# EAGLE library part X34 (library connectors)
Connector 34 pins
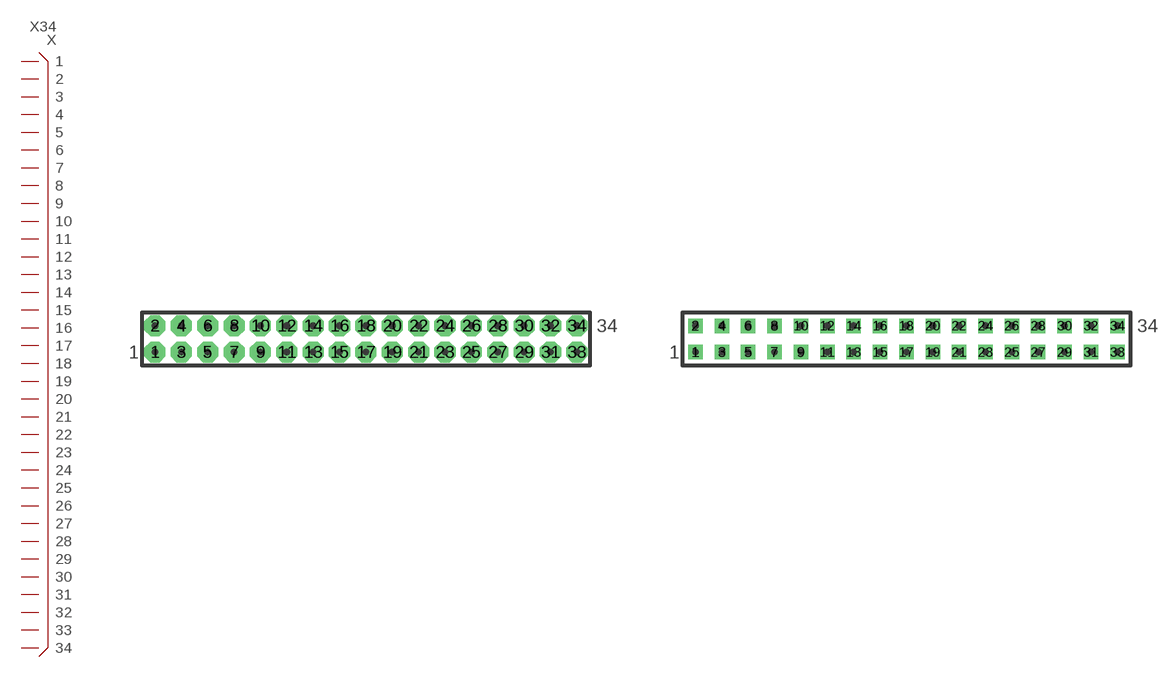
[diagram p30: symbol with the pads of X34N-DIL; footprints X34N-DIL, X34R-DIL]

Designator prefix X

## X34D  [X34N-DIL]
1  1
2  2
3  3
4  4
5  5
6  6
7  7
8  8
9  9
10  10
11  11
12  12
13  13
14  14
15  15
16  16
17  17
18  18
19  19
20  20
21  21
22  22
23  23
24  24
25  25
26  26
27  27
28  28
29  29
30  30
31  31
32  32
33  33
34  34

## X34DR  [X34R-DIL]
Pads as for X34N-DIL

## X34I  [X34N-IDC]
Pads as for X34N-DIL

## X34  [X34N-IDC]
Pads as for X34N-DIL

## X34IR  [X34R-IDC]
Pads as for X34N-DIL

## X34L  [X34L-SIL]
Pads as for X34N-DIL

## X34N  [X34N-SIL]
Pads as for X34N-DIL

## X34R  [X34R-SIL]
Pads as for X34N-DIL

## Footprint X34N-DIL (pad centres in mm)
Connector 34 pins, DIL
drill 0.889 pad 2.032 octagon: 1 -20.32,-1.27; 2 -20.32,1.27; 3 -17.78,-1.27; 4 -17.78,1.27; 5 -15.24,-1.27; 6 -15.24,1.27; 7 -12.7,-1.27; 8 -12.7,1.27; 9 -10.16,-1.27; 10 -10.16,1.27; 11 -7.62,-1.27; 12 -7.62,1.27; 13 -5.08,-1.27; 14 -5.08,1.27; 15 -2.54,-1.27; 16 -2.54,1.27; 17 0,-1.27; 18 0,1.27; 19 2.54,-1.27; 20 2.54,1.27; 21 5.08,-1.27; 22 5.08,1.27; 23 7.62,-1.27; 24 7.62,1.27; 25 10.16,-1.27; 26 10.16,1.27; 27 12.7,-1.27; 28 12.7,1.27; 29 15.24,-1.27; 30 15.24,1.27; 31 17.78,-1.27; 32 17.78,1.27; 33 20.32,-1.27; 34 20.32,1.27

## Footprint X34R-DIL (pad centres in mm)
Connector 34 pins, DIL, reduced pads
drill 0.889 pad 1.397 square: 1 -20.32,-1.27; 2 -20.32,1.27; 3 -17.78,-1.27; 4 -17.78,1.27; 5 -15.24,-1.27; 6 -15.24,1.27; 7 -12.7,-1.27; 8 -12.7,1.27; 9 -10.16,-1.27; 10 -10.16,1.27; 11 -7.62,-1.27; 12 -7.62,1.27; 13 -5.08,-1.27; 14 -5.08,1.27; 15 -2.54,-1.27; 16 -2.54,1.27; 17 0,-1.27; 18 0,1.27; 19 2.54,-1.27; 20 2.54,1.27; 21 5.08,-1.27; 22 5.08,1.27; 23 7.62,-1.27; 24 7.62,1.27; 25 10.16,-1.27; 26 10.16,1.27; 27 12.7,-1.27; 28 12.7,1.27; 29 15.24,-1.27; 30 15.24,1.27; 31 17.78,-1.27; 32 17.78,1.27; 33 20.32,-1.27; 34 20.32,1.27

## Footprint X34N-IDC (pad centres in mm)
Connector 34 pins, IDC
drill 0.889 pad 2.032 octagon: 1 -20.32,-1.27; 2 -20.32,1.27; 3 -17.78,-1.27; 4 -17.78,1.27; 5 -15.24,-1.27; 6 -15.24,1.27; 7 -12.7,-1.27; 8 -12.7,1.27; 9 -10.16,-1.27; 10 -10.16,1.27; 11 -7.62,-1.27; 12 -7.62,1.27; 13 -5.08,-1.27; 14 -5.08,1.27; 15 -2.54,-1.27; 16 -2.54,1.27; 17 0,-1.27; 18 0,1.27; 19 2.54,-1.27; 20 2.54,1.27; 21 5.08,-1.27; 22 5.08,1.27; 23 7.62,-1.27; 24 7.62,1.27; 25 10.16,-1.27; 26 10.16,1.27; 27 12.7,-1.27; 28 12.7,1.27; 29 15.24,-1.27; 30 15.24,1.27; 31 17.78,-1.27; 32 17.78,1.27; 33 20.32,-1.27; 34 20.32,1.27

## Footprint X34R-IDC (pad centres in mm)
Connector 34 pins, IDC, reduced pads
drill 0.889 pad 1.397 square: 1 -20.32,-1.27; 2 -20.32,1.27; 3 -17.78,-1.27; 4 -17.78,1.27; 5 -15.24,-1.27; 6 -15.24,1.27; 7 -12.7,-1.27; 8 -12.7,1.27; 9 -10.16,-1.27; 10 -10.16,1.27; 11 -7.62,-1.27; 12 -7.62,1.27; 13 -5.08,-1.27; 14 -5.08,1.27; 15 -2.54,-1.27; 16 -2.54,1.27; 17 0,-1.27; 18 0,1.27; 19 2.54,-1.27; 20 2.54,1.27; 21 5.08,-1.27; 22 5.08,1.27; 23 7.62,-1.27; 24 7.62,1.27; 25 10.16,-1.27; 26 10.16,1.27; 27 12.7,-1.27; 28 12.7,1.27; 29 15.24,-1.27; 30 15.24,1.27; 31 17.78,-1.27; 32 17.78,1.27; 33 20.32,-1.27; 34 20.32,1.27

## Footprint X34L-SIL (pad centres in mm)
Connector 34 pins, SIL, long pads
drill 0.889 pad 1.397 long: 1 -41.91,0; 2 -39.37,0; 3 -36.83,0; 4 -34.29,0; 5 -31.75,0; 6 -29.21,0; 7 -26.67,0; 8 -24.13,0; 9 -21.59,0; 10 -19.05,0; 11 -16.51,0; 12 -13.97,0; 13 -11.43,0; 14 -8.89,0; 15 -6.35,0; 16 -3.81,0; 17 -1.27,0; 18 1.27,0; 19 3.81,0; 20 6.35,0; 21 8.89,0; 22 11.43,0; 23 13.97,0; 24 16.51,0; 25 19.05,0; 26 21.59,0; 27 24.13,0; 28 26.67,0; 29 29.21,0; 30 31.75,0; 31 34.29,0; 32 36.83,0; 33 39.37,0; 34 41.91,0

## Footprint X34N-SIL (pad centres in mm)
Connector 34 pins, SIL
drill 0.889 pad 2.032 octagon: 1 -41.91,0; 2 -39.37,0; 3 -36.83,0; 4 -34.29,0; 5 -31.75,0; 6 -29.21,0; 7 -26.67,0; 8 -24.13,0; 9 -21.59,0; 10 -19.05,0; 11 -16.51,0; 12 -13.97,0; 13 -11.43,0; 14 -8.89,0; 15 -6.35,0; 16 -3.81,0; 17 -1.27,0; 18 1.27,0; 19 3.81,0; 20 6.35,0; 21 8.89,0; 22 11.43,0; 23 13.97,0; 24 16.51,0; 25 19.05,0; 26 21.59,0; 27 24.13,0; 28 26.67,0; 29 29.21,0; 30 31.75,0; 31 34.29,0; 32 36.83,0; 33 39.37,0; 34 41.91,0

## Footprint X34R-SIL (pad centres in mm)
Connector 34 pins, SIL, reduced pads
drill 0.889 pad 1.397 square: 1 -41.91,0; 2 -39.37,0; 3 -36.83,0; 4 -34.29,0; 5 -31.75,0; 6 -29.21,0; 7 -26.67,0; 8 -24.13,0; 9 -21.59,0; 10 -19.05,0; 11 -16.51,0; 12 -13.97,0; 13 -11.43,0; 14 -8.89,0; 15 -6.35,0; 16 -3.81,0; 17 -1.27,0; 18 1.27,0; 19 3.81,0; 20 6.35,0; 21 8.89,0; 22 11.43,0; 23 13.97,0; 24 16.51,0; 25 19.05,0; 26 21.59,0; 27 24.13,0; 28 26.67,0; 29 29.21,0; 30 31.75,0; 31 34.29,0; 32 36.83,0; 33 39.37,0; 34 41.91,0